# EAGLE library part AX8052F143 (library axsem_v4-11)
Ultra cool AXSEM low-power narrow-band transceiver with integrated ultra-low-power AX8052 micro-controller
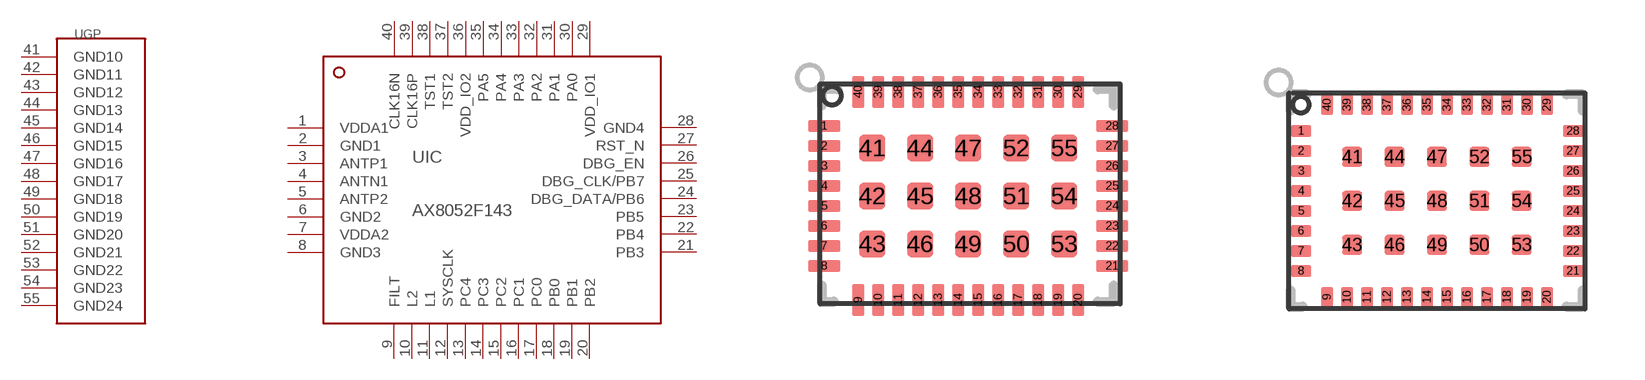
[diagram p11: symbol with the pads of QFN40-H; footprints QFN40-H, QFN40]

Designator prefix U; gates IC=AX8052F143 GP=GROUNDPAD15

## AX8052F143HS  [QFN40-H]
1  IC:VDDA1  pwr
2  IC:GND1  pwr
3  IC:ANTP1  pwr
4  IC:ANTN1  pwr
5  IC:ANTP2  pas
6  IC:GND2  pas
7  IC:VDDA2  pwr
8  IC:GND3  pwr
9  IC:FILT  pas
10  IC:L2  pas
11  IC:L1  in
12  IC:SYSCLK  out
13  IC:PC4
14  IC:PC3
15  IC:PC2
16  IC:PC1
17  IC:PC0
18  IC:PB0
19  IC:PB1
20  IC:PB2
21  IC:PB3
22  IC:PB4
23  IC:PB5
24  IC:DBG_DATA/PB6
25  IC:DBG_CLK/PB7
26  IC:DBG_EN  in
27  IC:RST_N  in
28  IC:GND4  pwr
29  IC:VDD_IO1  pwr
30  IC:PA0
31  IC:PA1
32  IC:PA2
33  IC:PA3
34  IC:PA4
35  IC:PA5
36  IC:VDD_IO2
37  IC:TST2
38  IC:TST1  pwr
39  IC:CLK16P  pas
40  IC:CLK16N  pas
41  GP:GND10  pwr
42  GP:GND11  pwr
43  GP:GND12  pwr
44  GP:GND13  pwr
45  GP:GND14  pwr
46  GP:GND15  pwr
47  GP:GND16  pwr
48  GP:GND17  pwr
49  GP:GND18  pwr
50  GP:GND19  pwr
51  GP:GND20  pwr
52  GP:GND21  pwr
53  GP:GND22  pwr
54  GP:GND23  pwr
55  GP:GND24  pwr

## AX8052F143N  [QFN40]
1  IC:VDDA1  pwr
2  IC:GND1  pwr
3  IC:ANTP1  pwr
4  IC:ANTN1  pwr
5  IC:ANTP2  pas
6  IC:GND2  pas
7  IC:VDDA2  pwr
8  IC:GND3  pwr
9  IC:FILT  pas
10  IC:L2  pas
11  IC:L1  in
12  IC:SYSCLK  out
13  IC:PC4
14  IC:PC3
15  IC:PC2
16  IC:PC1
17  IC:PC0
18  IC:PB0
19  IC:PB1
20  IC:PB2
21  IC:PB3
22  IC:PB4
23  IC:PB5
24  IC:DBG_DATA/PB6
25  IC:DBG_CLK/PB7
26  IC:DBG_EN  in
27  IC:RST_N  in
28  IC:GND4  pwr
29  IC:VDD_IO1  pwr
30  IC:PA0
31  IC:PA1
32  IC:PA2
33  IC:PA3
34  IC:PA4
35  IC:PA5
36  IC:VDD_IO2
37  IC:TST2
38  IC:TST1  pwr
39  IC:CLK16P  pas
40  IC:CLK16N  pas
41  GP:GND24  pwr
42  GP:GND23  pwr
43  GP:GND22  pwr
44  GP:GND21  pwr
45  GP:GND20  pwr
46  GP:GND19  pwr
47  GP:GND18  pwr
48  GP:GND17  pwr
49  GP:GND16  pwr
50  GP:GND15  pwr
51  GP:GND14  pwr
52  GP:GND13  pwr
53  GP:GND12  pwr
54  GP:GND11  pwr
55  GP:GND10  pwr

## Footprint QFN40-H (pad centres in mm)
QFN40H package for hand soldering
smd 0.8 x 0.3: 1 -3.6,1.75; 2 -3.6,1.25; 3 -3.6,0.75; 4 -3.6,0.25; 5 -3.6,-0.25; 6 -3.6,-0.75; 7 -3.6,-1.25; 8 -3.6,-1.75; 21 3.6,-1.75; 22 3.6,-1.25; 23 3.6,-0.75; 24 3.6,-0.25; 25 3.6,0.25; 26 3.6,0.75; 27 3.6,1.25; 28 3.6,1.75
smd 0.3 x 0.8: 9 -2.75,-2.6; 10 -2.25,-2.6; 11 -1.75,-2.6; 12 -1.25,-2.6; 13 -0.75,-2.6; 14 -0.25,-2.6; 15 0.25,-2.6; 16 0.75,-2.6; 17 1.25,-2.6; 18 1.75,-2.6; 19 2.25,-2.6; 20 2.75,-2.6; 29 2.75,2.6; 30 2.25,2.6; 31 1.75,2.6; 32 1.25,2.6; 33 0.75,2.6; 34 0.25,2.6; 35 -0.25,2.6; 36 -0.75,2.6; 37 -1.25,2.6; 38 -1.75,2.6; 39 -2.25,2.6; 40 -2.75,2.6
smd 0.65 x 0.65: 41 -2.4,1.2; 42 -2.4,0; 43 -2.4,-1.2; 44 -1.2,1.2; 45 -1.2,0; 46 -1.2,-1.2; 47 0,1.2; 48 0,0; 49 0,-1.2; 50 1.2,-1.2; 51 1.2,0; 52 1.2,1.2; 53 2.4,-1.2; 54 2.4,0; 55 2.4,1.2

## Footprint QFN40 (pad centres in mm)
AXSEM QFN40 5x7
smd 0.5 x 0.3: 1 -3.4,1.75; 2 -3.4,1.25; 3 -3.4,0.75; 4 -3.4,0.25; 5 -3.4,-0.25; 6 -3.4,-0.75; 7 -3.4,-1.25; 8 -3.4,-1.75; 21 3.4,-1.75; 22 3.4,-1.25; 23 3.4,-0.75; 24 3.4,-0.25; 25 3.4,0.25; 26 3.4,0.75; 27 3.4,1.25; 28 3.4,1.75
smd 0.3 x 0.5: 9 -2.75,-2.4; 10 -2.25,-2.4; 11 -1.75,-2.4; 12 -1.25,-2.4; 13 -0.75,-2.4; 14 -0.25,-2.4; 15 0.25,-2.4; 16 0.75,-2.4; 17 1.25,-2.4; 18 1.75,-2.4; 19 2.25,-2.4; 20 2.75,-2.4; 29 2.75,2.4; 30 2.25,2.4; 31 1.75,2.4; 32 1.25,2.4; 33 0.75,2.4; 34 0.25,2.4; 35 -0.25,2.4; 36 -0.75,2.4; 37 -1.25,2.4; 38 -1.75,2.4; 39 -2.25,2.4; 40 -2.75,2.4
smd 0.5 x 0.5: 41 -2.12,1.1; 42 -2.12,0; 43 -2.12,-1.1; 44 -1.06,1.1; 45 -1.06,0; 46 -1.06,-1.1; 47 0,1.1; 48 0,0; 49 0,-1.1; 50 1.06,-1.1; 51 1.06,0; 52 1.06,1.1; 53 2.12,-1.1; 54 2.12,0; 55 2.12,1.1